# Altium footprint library SoM_Router.PcbLib: 20 footprints (part 2 of 2)
Each footprint in its own frame and in the unit in brackets; x right, y up, seen from the top. Pads: shape width x height; smd on the part's side, far side on the other; paste and mask are expansions set on the pad; w line width, h text height; cw(c..) or ccw(c..) is an arc to the next point about the centre after c.
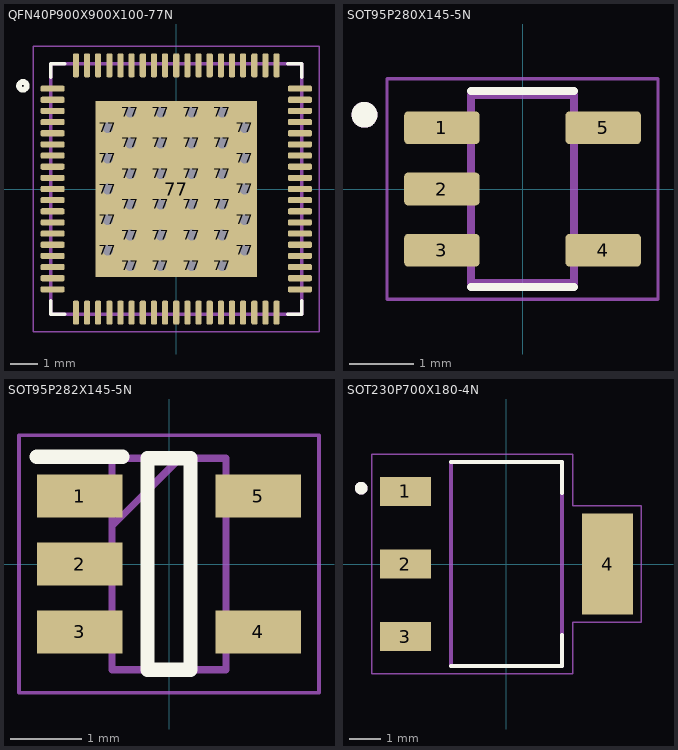
[diagram p1: the footprints below, top view; thin cyan lines are the x and y axes]

## QFN40P900X900X100-77N [mm]
pads (111):
  rrect50% 0.86x0.22 smd: 1(-4.435,3.6) 2(-4.435,3.2) 3(-4.435,2.8) 4(-4.435,2.4) 5(-4.435,2) 6(-4.435,1.6) 7(-4.435,1.2) 8(-4.435,0.8) 9(-4.435,0.4) 10(-4.435,0) 11(-4.435,-0.4) 12(-4.435,-0.8) 13(-4.435,-1.2) 14(-4.435,-1.6) 15(-4.435,-2) 16(-4.435,-2.4) 17(-4.435,-2.8) 18(-4.435,-3.2) 19(-4.435,-3.6) 39(4.435,-3.6) 40(4.435,-3.2) 41(4.435,-2.8) 42(4.435,-2.4) 43(4.435,-2) 44(4.435,-1.6) 45(4.435,-1.2) 46(4.435,-0.8) 47(4.435,-0.4) 48(4.435,0) 49(4.435,0.4) 50(4.435,0.8) 51(4.435,1.2) 52(4.435,1.6) 53(4.435,2) 54(4.435,2.4) 55(4.435,2.8) 56(4.435,3.2) 57(4.435,3.6)
  rrect50% 0.22x0.86 smd: 20(-3.6,-4.435) 21(-3.2,-4.435) 22(-2.8,-4.435) 23(-2.4,-4.435) 24(-2,-4.435) 25(-1.6,-4.435) 26(-1.2,-4.435) 27(-0.8,-4.435) 28(-0.4,-4.435) 29(0,-4.435) 30(0.4,-4.435) 31(0.8,-4.435) 32(1.2,-4.435) 33(1.6,-4.435) 34(2,-4.435) 35(2.4,-4.435) 36(2.8,-4.435) 37(3.2,-4.435) 38(3.6,-4.435) 58(3.6,4.435) 59(3.2,4.435) 60(2.8,4.435) 61(2.4,4.435) 62(2,4.435) 63(1.6,4.435) 64(1.2,4.435) 65(0.8,4.435) 66(0.4,4.435) 67(0,4.435) 68(-0.4,4.435) 69(-0.8,4.435) 70(-1.2,4.435) 71(-1.6,4.435) 72(-2,4.435) 73(-2.4,4.435) 74(-2.8,4.435) 75(-3.2,4.435) 76(-3.6,4.435)
  round 0.762 hole 0.381 mask+0: 77(-2.453,-2.2) 77(-2.453,-1.1) 77(-2.453,0) 77(-2.453,1.1) 77(-2.453,2.2) 77(-1.65,-2.75) 77(-1.65,-1.65) 77(-1.65,-0.55) 77(-1.65,0.55) 77(-1.65,1.65) 77(-1.65,2.75) 77(-0.55,-2.75) 77(-0.55,-1.65) 77(-0.55,-0.55) 77(-0.55,0.55) 77(-0.55,1.65) 77(-0.55,2.75) 77(0.55,-2.75) 77(0.55,-1.65) 77(0.55,-0.55) 77(0.55,0.55) 77(0.55,1.65) 77(0.55,2.75) 77(1.65,-2.75) 77(1.65,-1.65) 77(1.65,-0.55) 77(1.65,0.55) 77(1.65,1.65) 77(1.65,2.75) 77(2.453,-2.2) 77(2.453,-1.1) 77(2.453,0) 77(2.453,1.1) 77(2.453,2.2)
  rect 5.81x6.31 smd paste-4: 77(0,0)
Top Overlay:
  circle w0.2: c-5.5,3.7 r0.14
  lines w0.127: -4.5,-4 -4.5,-4.5 -4,-4.5 ; -4.5,4 -4.5,4.5 -4,4.5 ; 4,-4.5 4.5,-4.5 4.5,-4 ; 4,4.5 4.5,4.5 4.5,4
Top Paste:
  region: 0.675,-0.756 -0.676,-0.756 -0.676,0.755 0.675,0.755
  region: -1.265,-0.756 -2.619,-0.756 -2.619,0.755 -1.265,0.755
  region: 2.615,-0.755 1.266,-0.755 1.266,0.755 2.615,0.755
  region: -1.265,1.348 -2.62,1.348 -2.62,2.855 -1.265,2.855
  region: 0.675,1.347 -0.676,1.347 -0.676,2.855 0.675,2.855
  region: 2.615,1.347 1.267,1.347 1.267,2.855 2.615,2.855
  region: -1.265,-2.858 -2.618,-2.858 -2.618,-1.345 -1.265,-1.345
  region: 0.675,-2.857 -0.675,-2.857 -0.675,-1.345 0.675,-1.345
  region: 2.615,-2.858 1.266,-2.858 1.266,-1.345 2.615,-1.345
Mechanical 13:
  lines w0.127: -4.5,-4.5 4.5,-4.5 4.5,4.5 -4.5,4.5 -4.5,-4.5
Mechanical 15:
  lines w0.05: -5.12,-5.12 5.12,-5.12 5.12,5.12 -5.12,5.12 -5.12,-5.12
3D body: height 0.9, standoff 0, extent -4.5,-4.5 4.5,4.5

## SOT95P280X145-5N [mm]
pads (5):
  rrect25% 1.17x0.51 smd: 1(-1.25,0.95) 2(-1.25,0) 3(-1.25,-0.95) 4(1.25,-0.95) 5(1.25,0.95)
Top Overlay:
  circle w0.2: c-2.45,1.15 r0.1
  lines w0.127: -0.8,-1.52 0.8,-1.52 ; -0.8,1.52 0.8,1.52
Mechanical 13:
  circle w0.2: c-2.45,1.15 r0.1
  lines w0.127: -0.8,-1.46 0.8,-1.46 0.8,1.46 -0.8,1.46 -0.8,-1.46
Mechanical 15:
  lines w0.05: -2.1,-1.71 -2.1,1.71 2.1,1.71 2.1,-1.71 -2.1,-1.71
3D body "SOT25_DIO.step": height 1.45, standoff 0, extent -1.5,-1.55 1.5,1.55

## SOT95P282X145-5N [mm]
pads (5):
  rect 1.2x0.6 smd: 1(-1.25,0.95) 2(-1.25,0) 3(-1.25,-0.95) 4(1.25,-0.95) 5(1.25,0.95)
Top Overlay:
  lines w0.2: -1.85,1.5 -0.65,1.5 ; -0.3,-1.48 0.3,-1.48 0.3,1.48 -0.3,1.48 -0.3,-1.48
Mechanical 13:
  lines w0.1: -0.8,0.53 0.15,1.48 ; -0.8,-1.48 0.8,-1.48 0.8,1.48 -0.8,1.48 -0.8,-1.48
Mechanical 15:
  lines w0.05: -2.1,-1.8 2.1,-1.8 2.1,1.8 -2.1,1.8 -2.1,-1.8
3D body "AP2127K-ADJTRG1.stp": height 1.45, standoff 0, extent -1.412,-1.48 1.412,1.48

## SOT230P700X180-4N [mm]
pads (4):
  rect 1.61x0.92 smd: 1(-3.2,2.3) 2(-3.2,0) 3(-3.2,-2.3)
  rect 1.61x3.19 smd: 4(3.2,0)
Top Overlay:
  circle w0.2: c-4.6,2.4 r0.1
  lines w0.127: -1.75,-3.23 1.75,-3.23 1.75,-2.25 ; -1.75,3.23 1.75,3.23 1.75,2.25
Mechanical 13:
  circle w0.2: c-4.6,2.4 r0.1
  lines w0.127: -1.75,-3.23 1.75,-3.23 1.75,3.23 -1.75,3.23 -1.75,-3.23
Mechanical 15:
  lines w0.05: -4.26,-3.48 2.1,-3.48 2.1,-1.85 4.26,-1.85 4.26,1.85 2.1,1.85 2.1,3.48 -4.26,3.48 -4.26,-3.48
3D body "step_temp.STEP": height 1.8, standoff 0, extent -3.5,-3.225 3.5,3.225